# Altium schematic symbol library TC1-1-13M+.SchLib: 1 symbol
Pins are listed as number, name and electrical type; pins without a type are passive.

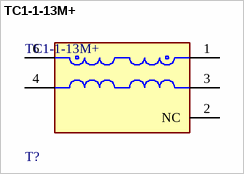
[diagram p0: symbol TC1-1-13M+]

## TC1-1-13M+
designator T?
RF Transformer Surface Mount 50Ω 4.5 to 3000 MHz; Manufacturer: Mini-Circuits; Insertion Loss: 0.18-3.02dB; Frequency: 4.5-3000MHz; Turns Ratio: 1:1; RoHS: TRUE; Temperature Range Low: -40°C; Manufacturer Part Number: TC1-1-13M+; Octopart: https://octopart.com/tc1-1-13m%2B-mini-circuits-3993639; Automotive: No; ComponentLink2URL: https://www.minicircuits.com/pdfs/TC1-1-13M+.pdf; Device Class L2: Transformers; Device Class L1: Passive Components; Lead Free: Yes; Device Class L3: unset; Category: Trans; Temperature Range High: +85°C; Package: 0; Footprint Url: https://www.minicircuits.com/case_style/AT224-1A.pdf; Temperature: -40°C to +85°C; Height: 4.06mm; ComponentLink2Description: Datasheet
footprint FP-TC1-1-13M+-MFG
pins: 1 SECONDARY DOT, 2 NC, 3 SECONDARY, 4 PRIMARY, 6 PRIMARY DOT